# Altium schematic symbol library AUVic_Integrated_Library_Switches.SchLib: 4 symbols
Pins are listed as number, name and electrical type; pins without a type are passive.

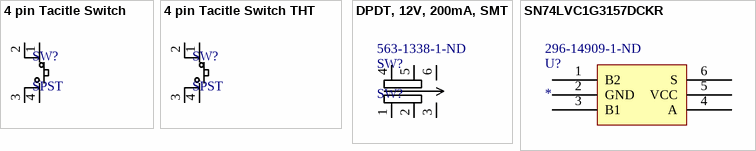
[diagram p0: symbols 4 pin Tacitle Switch to SN74LVC1G3157DCKR]

## 4 pin Tacitle Switch
designator SW?, comment SPST
Made By: Andy Bates; Button Type: Single Pole Single Throw; Supplier 1: Digikey; Supplier 1 Part Number: CKN9084CT-ND
footprint 4-SPST-NO
pins: 1, 2, 3, 4

## 4 pin Tacitle Switch THT
designator SW?, comment SPST
Made By: Andy Bates; Button Type: Single Pole Single Throw; Supplier 1: Digi-Key; Supplier Part Number 1: 450-1804-ND
footprint 4-SPST-THT-1825910-7
pins: 1, 2, 3, 4

## DPDT, 12V, 200mA, SMT
designator SW?, comment SW?  Supplier Part Number 1: 563-1338-1-ND
DPDT, 12V, 200mA, SMT; Supplier 1: Digi-Key; Created By: Lyden Smith; Date Created: 2017-09-20
footprint CL-2B-22A
footprint Model Name (Model Description)
pins: 1, 2, 3, 4, 5, 6

## SN74LVC1G3157DCKR
designator U?  Supplier Part Number 1: 296-14909-1-ND
IC SWITCH SPDT SC70-6; ComponentLink1Description: Digikey; ComponentLink1URL: https://www.digikey.ca/product-detail/en/SN74LVC1G3157DCKR/296-14909-1-ND/562526?utm_campaign=buynow&WT.z_cid=ref_octopart_dkc_buynow&utm_medium=aggregator&curr=cad&site=us&utm_source=octopart; Supplier 1: Digi-Key
footprint Model Name (Footprint not found)
footprint DCK0006A_L (SOT23, 6-Leads, Body 2.15x1.4mm, Pitch 0.65mm, IPC High Density)
pins: 1 B2, 2 GND, 3 B1, 4 A, 5 VCC, 6 S